# EAGLE library part STM32F103RGT6_BOTTOM (library MySTM32F103RGT6)
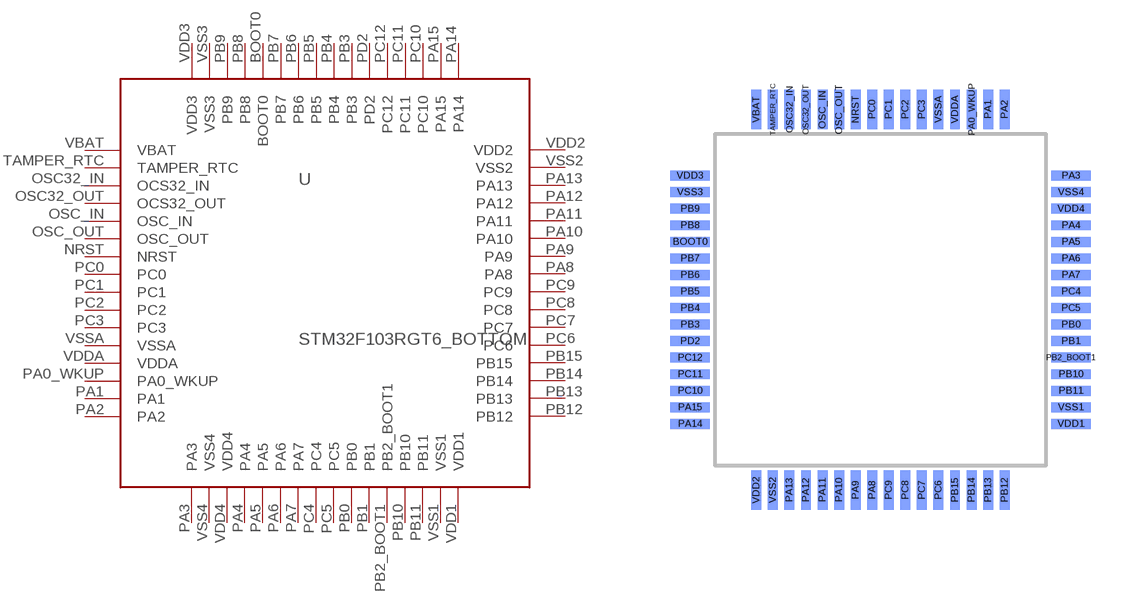
[diagram p1: symbol with the pads of STM32F103RGT6_BOTTOM; footprint STM32F103RGT6_BOTTOM]

Designator prefix -

## STM32F103RGT6_BOTTOM  [STM32F103RGT6_BOTTOM]
BOOT0  BOOT0
NRST  NRST
OSC32_IN  OCS32_IN
OSC32_OUT  OCS32_OUT
OSC_IN  OSC_IN
OSC_OUT  OSC_OUT
PA0_WKUP  PA0_WKUP
PA1  PA1
PA2  PA2
PA3  PA3
PA4  PA4
PA5  PA5
PA6  PA6
PA7  PA7
PA8  PA8
PA9  PA9
PA10  PA10
PA11  PA11
PA12  PA12
PA13  PA13
PA14  PA14
PA15  PA15
PB0  PB0
PB1  PB1
PB2_BOOT1  PB2_BOOT1
PB3  PB3
PB4  PB4
PB5  PB5
PB6  PB6
PB7  PB7
PB8  PB8
PB9  PB9
PB10  PB10
PB11  PB11
PB12  PB12
PB13  PB13
PB14  PB14
PB15  PB15
PC0  PC0
PC1  PC1
PC2  PC2
PC3  PC3
PC4  PC4
PC5  PC5
PC6  PC6
PC7  PC7
PC8  PC8
PC9  PC9
PC10  PC10
PC11  PC11
PC12  PC12
PD2  PD2
TAMPER_RTC  TAMPER_RTC
VBAT  VBAT
VDD1  VDD1
VDD2  VDD2
VDD3  VDD3
VDD4  VDD4
VDDA  VDDA
VSS1  VSS1
VSS2  VSS2
VSS3  VSS3
VSS4  VSS4
VSSA  VSSA

## Footprint STM32F103RGT6_BOTTOM (pad centres in mm)
smd 1.2 x 0.3 bottom: BOOT0 -5.75,1.75; PA3 5.75,3.75; PA4 5.75,2.25; PA5 5.75,1.75; PA6 5.75,1.25; PA7 5.75,0.75; PA14 -5.75,-3.75; PA15 -5.75,-3.25; PB0 5.75,-0.75; PB1 5.75,-1.25; PB2_BOOT1 5.75,-1.75; PB3 -5.75,-0.75; PB4 -5.75,-0.25; PB5 -5.75,0.25; PB6 -5.75,0.75; PB7 -5.75,1.25; PB8 -5.75,2.25; PB9 -5.75,2.75; PB10 5.75,-2.25; PB11 5.75,-2.75; PC4 5.75,0.25; PC5 5.75,-0.25; PC10 -5.75,-2.75; PC11 -5.75,-2.25; PC12 -5.75,-1.75; PD2 -5.75,-1.25; VDD1 5.75,-3.75; VDD3 -5.75,3.75; VDD4 5.75,2.75; VSS1 5.75,-3.25; VSS3 -5.75,3.25; VSS4 5.75,3.25
smd 0.3 x 1.2 bottom: NRST -0.75,5.75; OSC32_IN -2.75,5.75; OSC32_OUT -2.25,5.75; OSC_IN -1.75,5.75; OSC_OUT -1.25,5.75; PA0_WKUP 2.75,5.75; PA1 3.25,5.75; PA2 3.75,5.75; PA8 -0.25,-5.75; PA9 -0.75,-5.75; PA10 -1.25,-5.75; PA11 -1.75,-5.75; PA12 -2.25,-5.75; PA13 -2.75,-5.75; PB12 3.75,-5.75; PB13 3.25,-5.75; PB14 2.75,-5.75; PB15 2.25,-5.75; PC0 -0.25,5.75; PC1 0.25,5.75; PC2 0.75,5.75; PC3 1.25,5.75; PC6 1.75,-5.75; PC7 1.25,-5.75; PC8 0.75,-5.75; PC9 0.25,-5.75; TAMPER_RTC -3.25,5.75; VBAT -3.75,5.75; VDD2 -3.75,-5.75; VDDA 2.25,5.75; VSS2 -3.25,-5.75; VSSA 1.75,5.75